# Altium footprint library 智能车主板PcbLib1.PcbLib: 5 footprints
Each footprint in its own frame and in the unit in brackets; x right, y up, seen from the top. Pads: shape width x height; smd on the part's side, far side on the other; paste and mask are expansions set on the pad; w line width, h text height; cw(c..) or ccw(c..) is an arc to the next point about the centre after c.
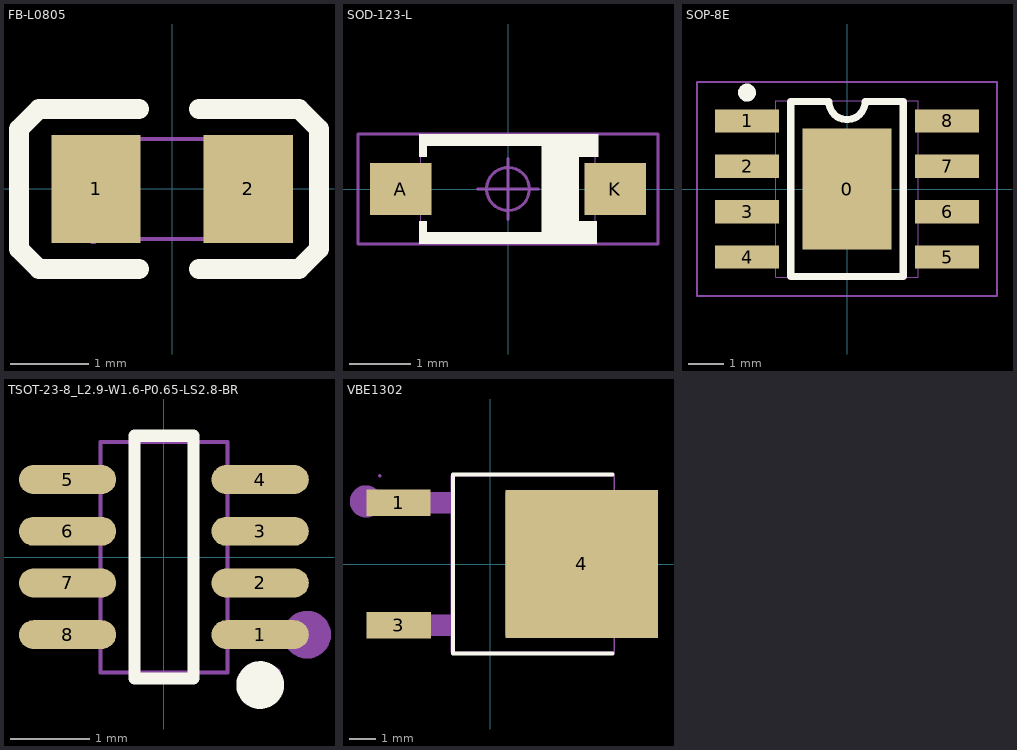
[diagram p0: the footprints below, top view; thin cyan lines are the x and y axes]

## FB-L0805 [mm]
pads (2):
  rect 1.133x1.377 smd paste-100 mask+0.051: 1(-0.966,0) 2(0.966,0)
Top Overlay:
  lines w0.254: -0.421,-1.016 -1.691,-1.016 -1.945,-0.762 -1.945,-0.635 -1.945,0.762 -1.691,1.016 -1.564,1.016 -0.421,1.016 ; 0.341,-1.016 1.484,-1.016 1.611,-1.016 1.865,-0.762 1.865,0.635 1.865,0.762 1.611,1.016 0.341,1.016
Top Paste:
  region: 0.36,-0.22 0.36,0.22 0.745,0.689 1.433,0.689 1.533,0.589 1.533,-0.588 1.433,-0.688 0.745,-0.688
  region: -0.36,-0.22 -0.36,0.22 -0.745,0.689 -1.433,0.689 -1.533,0.589 -1.533,-0.588 -1.433,-0.688 -0.745,-0.688
Mechanical 15:
  region: -0.94,-0.637 -0.94,-0.613 -0.975,-0.577 -1.025,-0.577 -1.06,-0.613 -1.06,-0.637 -1.06,-0.662 -1.025,-0.697 -0.975,-0.697 -0.94,-0.662 -0.94,-0.637
  region: -1,-0.637 -1,0.638 -0.6,0.638 -0.6,-0.637
  region: 1,-0.637 1,0.638 0.6,0.638 0.6,-0.637
  lines w0.051: -1,-0.637 1,-0.637 1,0.638 -1,0.638 -1,-0.637

## SOD-123-L [mm]
pads (2):
  rect 1x0.85 smd: A(-1.75,0) K(1.75,0)
Top Overlay:
  rectangle: 0.55,-0.8 1.16,0.8
  rectangle: -1.45,0.525 -1.325,0.9
  region: -1.325,-0.525 -1.45,-0.525 -1.45,-0.9 -1.325,-0.9
  rectangle: 0.9,0.525 1.475,0.9
  region: 1.45,-0.525 0.85,-0.525 0.85,-0.9 1.45,-0.9
  lines w0.2: -1.35,-0.8 1.35,-0.8 ; -1.35,0.8 1.35,0.8
Mechanical 15:
  circle w0.05: c0,0 r0.35
  lines w0.001: -1.425,-0.9 -1.425,0.9 1.425,0.9 1.425,-0.9 -1.425,-0.9
  lines w0.05: -0.5,0 0.5,0 ; 0,-0.5 0,0.5 ; -2.45,-0.9 -2.45,0.9 2.45,0.9 2.45,-0.9 -2.45,-0.9
3D body "SOD-123.STEP": height 1.2, standoff 0, extent -1.85,-0.8 1.85,0.8

## SOP-8E [mm] "SOIC,1.27mm pitch;8 pin,3.90mm W X 4.88mm L X 1.73mm H body"
pads (9):
  rect 2.5x3.4 smd: 0(0,0)
  rect 1.8x0.65 smd: 1(-2.8,1.905) 2(-2.8,0.635) 3(-2.8,-0.635) 4(-2.8,-1.905) 5(2.8,-1.905) 6(2.8,-0.635) 7(2.8,0.635) 8(2.8,1.905)
Top Overlay:
  circle w0.25: c-2.8,2.7 r0.125
  lines w0.2: -1.575,-2.45 -1.575,2.45 -0.508,2.45 ccw(c0,2.45) 0.508,2.45 1.575,2.45 1.575,-2.45 -1.575,-2.45
Mechanical 15:
  circle w0.05: c0,0 r0.35
  lines w0.001: -2,-2.475 -2,2.475 2,2.475 2,-2.475 -2,-2.475
  lines w0.05: -0.5,0 0.5,0 ; 0,-0.5 0,0.5 ; -4.2,-3 -4.2,3 4.2,3 4.2,-3 -4.2,-3
3D body "SOIC8.STEP": height 1.75, standoff 0, extent -3.105,-2.45 3.105,2.45

## TSOT-23-8_L2.9-W1.6-P0.65-LS2.8-BR [mm]
pads (8):
  oval 1.222x0.364 smd: 1(1.211,-0.975) 2(1.211,-0.325) 3(1.211,0.325) 4(1.211,0.975) 5(-1.211,0.975) 6(-1.211,0.325) 7(-1.211,-0.325) 8(-1.211,-0.975)
Top Overlay:
  circle w0.3: c1.211,-1.609 r0.15
  lines w0.152: -0.371,-1.526 -0.371,1.526 0.371,1.526 0.371,-1.526 -0.371,-1.526
Mechanical 6:
  circle w0.3: c1.8,-0.975 r0.15
Mechanical 15:
  region: -1.01,0.825 -0.79,0.825 -0.79,1.125 -1.01,1.125
  region: -1.4,0.825 -1,0.825 -1,1.125 -1.4,1.125
  region: -1.01,0.175 -0.79,0.175 -0.79,0.475 -1.01,0.475
  region: -1.4,0.175 -1,0.175 -1,0.475 -1.4,0.475
  region: -1.01,-0.475 -0.79,-0.475 -0.79,-0.175 -1.01,-0.175
  region: -1.4,-0.475 -1,-0.475 -1,-0.175 -1.4,-0.175
  region: -1.01,-1.125 -0.79,-1.125 -0.79,-0.825 -1.01,-0.825
  region: -1.4,-1.125 -1,-1.125 -1,-0.825 -1.4,-0.825
  region: 1.01,0.825 0.79,0.825 0.79,1.125 1.01,1.125
  region: 1.4,0.825 1,0.825 1,1.125 1.4,1.125
  region: 1.01,0.175 0.79,0.175 0.79,0.475 1.01,0.475
  region: 1.4,0.175 1,0.175 1,0.475 1.4,0.475
  region: 1.01,-0.475 0.79,-0.475 0.79,-0.175 1.01,-0.175
  region: 1.4,-0.475 1,-0.475 1,-0.175 1.4,-0.175
  region: 1.01,-1.125 0.79,-1.125 0.79,-0.825 1.01,-0.825
  region: 1.4,-1.125 1,-1.125 1,-0.825 1.4,-0.825
  region: 1.46,-1.45 1.46,-1.425 1.425,-1.39 1.375,-1.39 1.34,-1.425 1.34,-1.45 1.34,-1.475 1.375,-1.51 1.425,-1.51 1.46,-1.475 1.46,-1.45
  lines w0.051: -0.8,-1.45 -0.8,1.45 0.8,1.45 0.8,-1.45 -0.8,-1.45

## VBE1302 [mm]
pads (3):
  rect 2.409x0.979 smd: 1(-3.424,2.29) 3(-3.423,-2.29)
  rect 5.711x5.548 smd: 4(3.424,0)
Top Overlay:
  lines w0.152: 4.584,-3.346 -1.383,-3.346 -1.383,3.346 4.584,3.346
Mechanical 6:
  circle w0.6: c-4.64,2.34 r0.3
Mechanical 15:
  region: -1.435,2.69 -1.435,1.89 -2.925,1.89 -2.925,2.69
  region: -1.435,-1.89 -1.435,-2.69 -2.925,-2.69 -2.925,-1.89
  region: -2.924,1.89 -4.124,1.89 -4.124,2.69 -2.924,2.69
  region: -2.923,-2.69 -4.124,-2.69 -4.124,-1.89 -2.923,-1.89
  region: 0.568,-2.667 0.568,2.668 5.245,2.668 5.778,2.134 5.778,-2.134 5.245,-2.667
  region: -4.064,3.3 -4.064,3.325 -4.099,3.36 -4.149,3.36 -4.184,3.325 -4.184,3.3 -4.184,3.275 -4.149,3.24 -4.099,3.24 -4.064,3.275 -4.064,3.3
  lines w0.051: -1.45,-3.3 -1.45,3.3 4.65,3.3 4.65,-3.3 -1.45,-3.3